# EAGLE library part FPGA_LFE3_17EA_XX328 (library ecad)
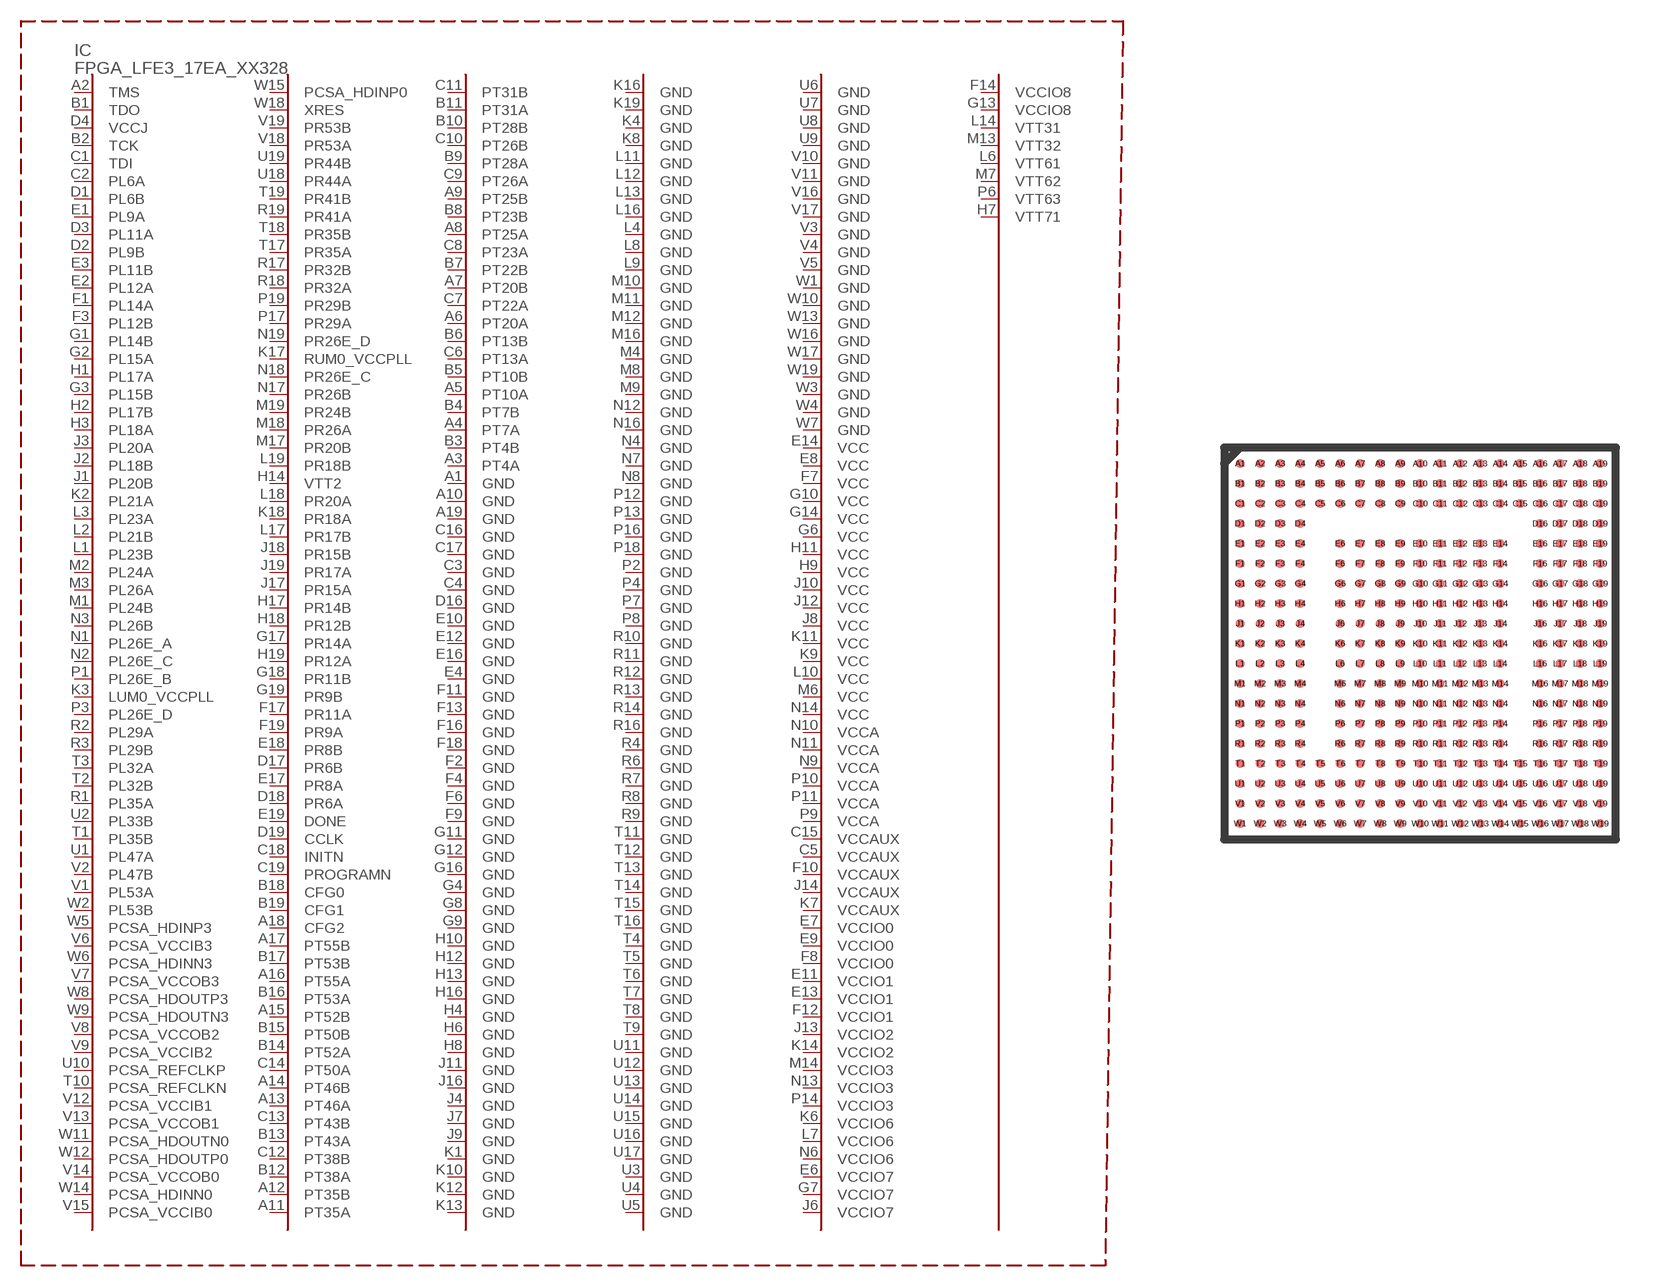
[diagram p0: symbol with the pads of CSBGA328; footprint CSBGA328]

Designator prefix IC

## FPGA_LFE3_17EA_XX328  [CSBGA328]
A1  GND  pwr
A2  TMS  in
A3  PT4A
A4  PT7A
A5  PT10A
A6  PT20A
A7  PT20B
A8  PT25A
A9  PT25B
A10  GND  pwr
A11  PT35A
A12  PT35B
A13  PT46A
A14  PT46B
A15  PT52B
A16  PT55A
A17  PT55B
A18  CFG2  in
A19  GND  pwr
B1  TDO  out
B2  TCK  in
B3  PT4B
B4  PT7B
B5  PT10B
B6  PT13B
B7  PT22B
B8  PT23B
B9  PT28A
B10  PT28B
B11  PT31A
B12  PT38A
B13  PT43A
B14  PT52A
B15  PT50B
B16  PT53A
B17  PT53B
B18  CFG0  in
B19  CFG1  in
C1  TDI  in
C2  PL6A
C3  GND  pwr
C4  GND  pwr
C5  VCCAUX  pwr
C6  PT13A
C7  PT22A
C8  PT23A
C9  PT26A
C10  PT26B
C11  PT31B
C12  PT38B
C13  PT43B
C14  PT50A
C15  VCCAUX  pwr
C16  GND  pwr
C17  GND  pwr
C18  INITN
C19  PROGRAMN  in
D1  PL6B
D2  PL9B
D3  PL11A
D4  VCCJ  pwr
D16  GND  pwr
D17  PR6B
D18  PR6A
D19  CCLK
E1  PL9A
E2  PL12A
E3  PL11B
E4  GND  pwr
E6  VCCIO7  pwr
E7  VCCIO0  pwr
E8  VCC  pwr
E9  VCCIO0  pwr
E10  GND  pwr
E11  VCCIO1  pwr
E12  GND  pwr
E13  VCCIO1  pwr
E14  VCC  pwr
E16  GND  pwr
E17  PR8A
E18  PR8B
E19  DONE
F1  PL14A
F2  GND  pwr
F3  PL12B
F4  GND  pwr
F6  GND  pwr
F7  VCC  pwr
F8  VCCIO0  pwr
F9  GND  pwr
F10  VCCAUX  pwr
F11  GND  pwr
F12  VCCIO1  pwr
F13  GND  pwr
F14  VCCIO8  pwr
F16  GND  pwr
F17  PR11A
F18  GND  pwr
F19  PR9A
G1  PL14B
G2  PL15A
G3  PL15B
G4  GND  pwr
G6  VCC  pwr
G7  VCCIO7  pwr
G8  GND  pwr
G9  GND  pwr
G10  VCC  pwr
G11  GND  pwr
G12  GND  pwr
G13  VCCIO8  pwr
G14  VCC  pwr
G16  GND  pwr
G17  PR14A
G18  PR11B
G19  PR9B
H1  PL17A
H2  PL17B
H3  PL18A
H4  GND  pwr
H6  GND  pwr
H7  VTT71  pas
H8  GND  pwr
H9  VCC  pwr
H10  GND  pwr
H11  VCC  pwr
H12  GND  pwr
H13  GND  pwr
H14  VTT2  pas
H16  GND  pwr
H17  PR14B
H18  PR12B
H19  PR12A
J1  PL20B
J2  PL18B
J3  PL20A
J4  GND  pwr
J6  VCCIO7  pwr
J7  GND  pwr
J8  VCC  pwr
J9  GND  pwr
J10  VCC  pwr
J11  GND  pwr
J12  VCC  pwr
J13  VCCIO2  pwr
J14  VCCAUX  pwr
J16  GND  pwr
J17  PR15A
J18  PR15B
J19  PR17A
K1  GND  pwr
K2  PL21A
K3  LUM0_VCCPLL  pwr
K4  GND  pwr
K6  VCCIO6  pwr
K7  VCCAUX  pwr
K8  GND  pwr
K9  VCC  pwr
K10  GND  pwr
K11  VCC  pwr
K12  GND  pwr
K13  GND  pwr
K14  VCCIO2  pwr
K16  GND  pwr
K17  RUM0_VCCPLL  pwr
K18  PR18A
K19  GND  pwr
L1  PL23B
L2  PL21B
L3  PL23A
L4  GND  pwr
L6  VTT61  pas
L7  VCCIO6  pwr
L8  GND  pwr
L9  GND  pwr
L10  VCC  pwr
L11  GND  pwr
L12  GND  pwr
L13  GND  pwr
L14  VTT31  pas
L16  GND  pwr
L17  PR17B
L18  PR20A
L19  PR18B
M1  PL24B
M2  PL24A
M3  PL26A
M4  GND  pwr
M6  VCC  pwr
M7  VTT62  pas
M8  GND  pwr
M9  GND  pwr
M10  GND  pwr
M11  GND  pwr
M12  GND  pwr
M13  VTT32  pas
M14  VCCIO3  pwr
M16  GND  pwr
M17  PR20B
M18  PR26A
M19  PR24B
N1  PL26E_A
N2  PL26E_C
N3  PL26B
N4  GND  pwr
N6  VCCIO6  pwr
N7  GND  pwr
N8  GND  pwr
N9  VCCA  pwr
N10  VCCA  pwr
N11  VCCA  pwr
N12  GND  pwr
N13  VCCIO3  pwr
N14  VCC  pwr
N16  GND  pwr
N17  PR26B
N18  PR26E_C
N19  PR26E_D
P1  PL26E_B
P2  GND  pwr
P3  PL26E_D
P4  GND  pwr
P6  VTT63  pas
P7  GND  pwr
P8  GND  pwr
P9  VCCA  pwr
P10  VCCA  pwr
P11  VCCA  pwr
P12  GND  pwr
P13  GND  pwr
P14  VCCIO3  pwr
P16  GND  pwr
P17  PR29A
P18  GND  pwr
P19  PR29B
R1  PL35A
R2  PL29A
R3  PL29B
R4  GND  pwr
R6  GND  pwr
R7  GND  pwr
R8  GND  pwr
R9  GND  pwr
R10  GND  pwr
R11  GND  pwr
R12  GND  pwr
R13  GND  pwr
R14  GND  pwr
R16  GND  pwr
R17  PR32B
R18  PR32A
R19  PR41A
T1  PL35B
T2  PL32B
T3  PL32A
T4  GND  pwr
T5  GND  pwr
T6  GND  pwr
T7  GND  pwr
T8  GND  pwr
T9  GND  pwr
T10  PCSA_REFCLKN  in
T11  GND  pwr
T12  GND  pwr
T13  GND  pwr
T14  GND  pwr
T15  GND  pwr
T16  GND  pwr
T17  PR35A
T18  PR35B
T19  PR41B
U1  PL47A
U2  PL33B
U3  GND  pwr
U4  GND  pwr
U5  GND  pwr
U6  GND  pwr
U7  GND  pwr
U8  GND  pwr
U9  GND  pwr
U10  PCSA_REFCLKP  in
U11  GND  pwr
U12  GND  pwr
U13  GND  pwr
U14  GND  pwr
U15  GND  pwr
U16  GND  pwr
U17  GND  pwr
U18  PR44A
U19  PR44B
V1  PL53A
V2  PL47B
V3  GND  pwr
V4  GND  pwr
V5  GND  pwr
V6  PCSA_VCCIB3  pwr
V7  PCSA_VCCOB3  pwr
V8  PCSA_VCCOB2  pwr
V9  PCSA_VCCIB2  pwr
V10  GND  pwr
V11  GND  pwr
V12  PCSA_VCCIB1  pwr
V13  PCSA_VCCOB1  pwr
V14  PCSA_VCCOB0  pwr
V15  PCSA_VCCIB0  pwr
V16  GND  pwr
V17  GND  pwr
V18  PR53A
V19  PR53B
W1  GND  pwr
W2  PL53B
W3  GND  pwr
W4  GND  pwr
W5  PCSA_HDINP3  in
W6  PCSA_HDINN3  in
W7  GND  pwr
W8  PCSA_HDOUTP3  hiz
W9  PCSA_HDOUTN3  hiz
W10  GND  pwr
W11  PCSA_HDOUTN0  hiz
W12  PCSA_HDOUTP0  hiz
W13  GND  pwr
W14  PCSA_HDINN0  in
W15  PCSA_HDINP0  in
W16  GND  pwr
W17  GND  pwr
W18  XRES  pas
W19  GND  pwr

## Footprint CSBGA328 (pad centres in mm)
BSDLLFE3-17EACSBGA328 edit this description Auto generated by make-symbol-device-package-bsdl.ulp Rev. 43 Source: BSDLLFE3-17EACSBGA328.BSM
smd 0.23 x 0.23: A1 -4.5,4.5; A2 -4,4.5; A3 -3.5,4.5; A4 -3,4.5; A5 -2.5,4.5; A6 -2,4.5; A7 -1.5,4.5; A8 -1,4.5; A9 -0.5,4.5; A10 0,4.5; A11 0.5,4.5; A12 1,4.5; A13 1.5,4.5; A14 2,4.5; A15 2.5,4.5; A16 3,4.5; A17 3.5,4.5; A18 4,4.5; A19 4.5,4.5; B1 -4.5,4; B2 -4,4; B3 -3.5,4; B4 -3,4; B5 -2.5,4; B6 -2,4; B7 -1.5,4; B8 -1,4; B9 -0.5,4; B10 0,4; B11 0.5,4; B12 1,4; B13 1.5,4; B14 2,4; B15 2.5,4; B16 3,4; B17 3.5,4; B18 4,4; B19 4.5,4; C1 -4.5,3.5; C2 -4,3.5; C3 -3.5,3.5; C4 -3,3.5; C5 -2.5,3.5; C6 -2,3.5; C7 -1.5,3.5; C8 -1,3.5; C9 -0.5,3.5; C10 0,3.5; C11 0.5,3.5; C12 1,3.5; C13 1.5,3.5; C14 2,3.5; C15 2.5,3.5; C16 3,3.5; C17 3.5,3.5; C18 4,3.5; C19 4.5,3.5; D1 -4.5,3; D2 -4,3; D3 -3.5,3; D4 -3,3; D16 3,3; D17 3.5,3; D18 4,3; D19 4.5,3; E1 -4.5,2.5; E2 -4,2.5; E3 -3.5,2.5; E4 -3,2.5; E6 -2,2.5; E7 -1.5,2.5; E8 -1,2.5; E9 -0.5,2.5; E10 0,2.5; E11 0.5,2.5; E12 1,2.5; E13 1.5,2.5; E14 2,2.5; E16 3,2.5; E17 3.5,2.5; E18 4,2.5; E19 4.5,2.5; F1 -4.5,2; F2 -4,2; F3 -3.5,2; F4 -3,2; F6 -2,2; F7 -1.5,2; F8 -1,2; F9 -0.5,2; F10 0,2; F11 0.5,2; F12 1,2; F13 1.5,2; F14 2,2; F16 3,2; F17 3.5,2; F18 4,2; F19 4.5,2; G1 -4.5,1.5; G2 -4,1.5; G3 -3.5,1.5; G4 -3,1.5; G6 -2,1.5; G7 -1.5,1.5; G8 -1,1.5; G9 -0.5,1.5; G10 0,1.5; G11 0.5,1.5; G12 1,1.5; G13 1.5,1.5; G14 2,1.5; G16 3,1.5; G17 3.5,1.5; G18 4,1.5; G19 4.5,1.5; H1 -4.5,1; H2 -4,1; H3 -3.5,1; H4 -3,1; H6 -2,1; H7 -1.5,1; H8 -1,1; H9 -0.5,1; H10 0,1; H11 0.5,1; H12 1,1; H13 1.5,1; H14 2,1; H16 3,1; H17 3.5,1; H18 4,1; H19 4.5,1; J1 -4.5,0.5; J2 -4,0.5; J3 -3.5,0.5; J4 -3,0.5; J6 -2,0.5; J7 -1.5,0.5; J8 -1,0.5; J9 -0.5,0.5; J10 0,0.5; J11 0.5,0.5; J12 1,0.5; J13 1.5,0.5; J14 2,0.5; J16 3,0.5; J17 3.5,0.5; J18 4,0.5; J19 4.5,0.5; K1 -4.5,0; K2 -4,0; K3 -3.5,0; K4 -3,0; K6 -2,0; K7 -1.5,0; K8 -1,0; K9 -0.5,0; K10 0,0; K11 0.5,0; K12 1,0; K13 1.5,0; K14 2,0; K16 3,0; K17 3.5,0; K18 4,0; K19 4.5,0; L1 -4.5,-0.5; L2 -4,-0.5; L3 -3.5,-0.5; L4 -3,-0.5; L6 -2,-0.5; L7 -1.5,-0.5; L8 -1,-0.5; L9 -0.5,-0.5; L10 0,-0.5; L11 0.5,-0.5; L12 1,-0.5; L13 1.5,-0.5; L14 2,-0.5; L16 3,-0.5; L17 3.5,-0.5; L18 4,-0.5; L19 4.5,-0.5; M1 -4.5,-1; M2 -4,-1; M3 -3.5,-1; M4 -3,-1; M6 -2,-1; M7 -1.5,-1; M8 -1,-1; M9 -0.5,-1; M10 0,-1; M11 0.5,-1; M12 1,-1; M13 1.5,-1; M14 2,-1; M16 3,-1; M17 3.5,-1; M18 4,-1; M19 4.5,-1; N1 -4.5,-1.5; N2 -4,-1.5; N3 -3.5,-1.5; N4 -3,-1.5; N6 -2,-1.5; N7 -1.5,-1.5; N8 -1,-1.5; N9 -0.5,-1.5; N10 0,-1.5; N11 0.5,-1.5; N12 1,-1.5; N13 1.5,-1.5; N14 2,-1.5; N16 3,-1.5; N17 3.5,-1.5; N18 4,-1.5; N19 4.5,-1.5; P1 -4.5,-2; P2 -4,-2; P3 -3.5,-2; P4 -3,-2; P6 -2,-2; P7 -1.5,-2; P8 -1,-2; P9 -0.5,-2; P10 0,-2; P11 0.5,-2; P12 1,-2; P13 1.5,-2; P14 2,-2; P16 3,-2; P17 3.5,-2; P18 4,-2; P19 4.5,-2; R1 -4.5,-2.5; R2 -4,-2.5; R3 -3.5,-2.5; R4 -3,-2.5; R6 -2,-2.5; R7 -1.5,-2.5; R8 -1,-2.5; R9 -0.5,-2.5; R10 0,-2.5; R11 0.5,-2.5; R12 1,-2.5; R13 1.5,-2.5; R14 2,-2.5; R16 3,-2.5; R17 3.5,-2.5; R18 4,-2.5; R19 4.5,-2.5; T1 -4.5,-3; T2 -4,-3; T3 -3.5,-3; T4 -3,-3; T5 -2.5,-3; T6 -2,-3; T7 -1.5,-3; T8 -1,-3; T9 -0.5,-3; T10 0,-3; T11 0.5,-3; T12 1,-3; T13 1.5,-3; T14 2,-3; T15 2.5,-3; T16 3,-3; T17 3.5,-3; T18 4,-3; T19 4.5,-3; U1 -4.5,-3.5; U2 -4,-3.5; U3 -3.5,-3.5; U4 -3,-3.5; U5 -2.5,-3.5; U6 -2,-3.5; U7 -1.5,-3.5; U8 -1,-3.5; U9 -0.5,-3.5; U10 0,-3.5; U11 0.5,-3.5; U12 1,-3.5; U13 1.5,-3.5; U14 2,-3.5; U15 2.5,-3.5; U16 3,-3.5; U17 3.5,-3.5; U18 4,-3.5; U19 4.5,-3.5; V1 -4.5,-4; V2 -4,-4; V3 -3.5,-4; V4 -3,-4; V5 -2.5,-4; V6 -2,-4; V7 -1.5,-4; V8 -1,-4; V9 -0.5,-4; V10 0,-4; V11 0.5,-4; V12 1,-4; V13 1.5,-4; V14 2,-4; V15 2.5,-4; V16 3,-4; V17 3.5,-4; V18 4,-4; V19 4.5,-4; W1 -4.5,-4.5; W2 -4,-4.5; W3 -3.5,-4.5; W4 -3,-4.5; W5 -2.5,-4.5; W6 -2,-4.5; W7 -1.5,-4.5; W8 -1,-4.5; W9 -0.5,-4.5; W10 0,-4.5; W11 0.5,-4.5; W12 1,-4.5; W13 1.5,-4.5; W14 2,-4.5; W15 2.5,-4.5; W16 3,-4.5; W17 3.5,-4.5; W18 4,-4.5; W19 4.5,-4.5